# Altium schematic symbol library Componentes_Open.SchLib: 12 symbols
Pins are listed as number, name and electrical type; pins without a type are passive.

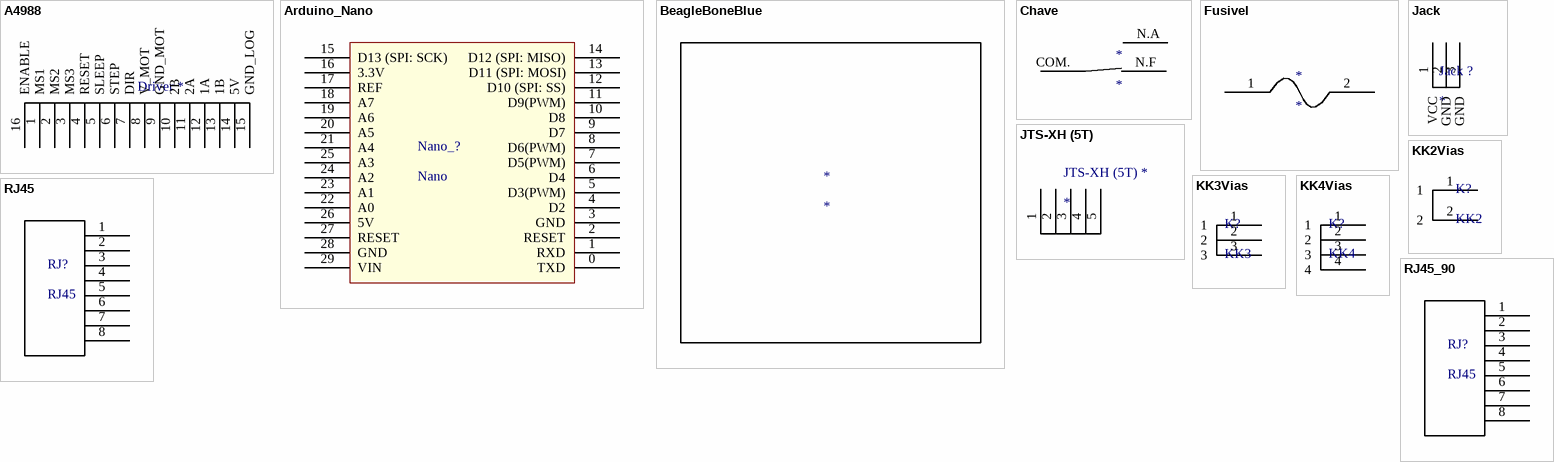
[diagram p0: symbols A4988 to RJ45_90]

## A4988
designator Driver *  (value not drawn)
footprint A4988
pins: 1 MS1, 2 MS2, 3 MS3, 4 RESET, 5 SLEEP, 6 STEP, 7 DIR, 8 V_MOT, 9 GND_MOT, 10 2B, 11 2A, 12 1A, 13 1B, 14 5V, 15 GND_LOG, 16 ENABLE

## Arduino_Nano
designator Nano_?, comment Nano
footprint Arduino_Nano
pins: 0 TXD, 1 RXD, 2 RESET, 3 GND, 4 D2, 5 D3(PWM), 6 D4, 7 D5(PWM), 8 D6(PWM), 9 D7, 10 D8, 11 D9(PWM), 12 D10 (SPI: SS), 13 D11 (SPI: MOSI), 14 D12 (SPI: MISO), 15 D13 (SPI: SCK), 16 3.3V, 17 REF, 18 A7, 19 A6, 20 A5, 21 A4, 22 A0, 23 A1, 24 A2, 25 A3, 26 5V, 27 RESET, 28 GND, 29 VIN

## BeagleBoneBlue
designator *
footprint BBB

## Chave
designator *
footprint Chave; pin to pad COM.>1 N.A>2 N.F>3
pins: COM. COM, N.A, N.F

## Fusivel
designator *
pins: 1, 2

## Jack
designator Jack ?
footprint JACK J4
footprint JACK J4
pins: 1 VCC, 2 GND, 3 GND

## JTS-XH (5T)
designator JTS-XH (5T) *
footprint A4988
pins: 1, 2, 3, 4, 5

## KK2Vias
designator K?, comment KK2
footprint 2-vias
pins: 1, 2

## KK3Vias
designator K?, comment KK3
footprint 3-vias
pins: 1, 2, 3

## KK4Vias
designator K?, comment KK4
ComponentLink1Description: Fabricante; ComponentLink1URL: https://www.molex.com/molex/products/family?key=kk_254_rpc_connector_system&channel=products&chanName=family&pageTitle=Introduction&parentKey=kk_interconnect_solutions
footprint 4-vias
pins: 1, 2, 3, 4

## RJ45
designator RJ?
footprint RJ45_Simples (Sem led nessas porra - 8P8C)
footprint RJ45_90
pins: 1 9, 2, 3, 4, 5, 6, 7, 8

## RJ45_90
designator RJ?, comment RJ45
footprint RJ45_Simples (Sem led nessas porra - 8P8C)
footprint RJ45_90
pins: 1 9, 2, 3, 4, 5, 6, 7, 8